# Altium footprint library Empreintes_LIB_atelier1A.PcbLib: 72 footprints (part 2 of 5)
Each footprint in its own frame and in the unit in brackets; x right, y up, seen from the top. Pads: shape width x height; smd on the part's side, far side on the other; paste and mask are expansions set on the pad; w line width, h text height; cw(c..) or ccw(c..) is an arc to the next point about the centre after c.
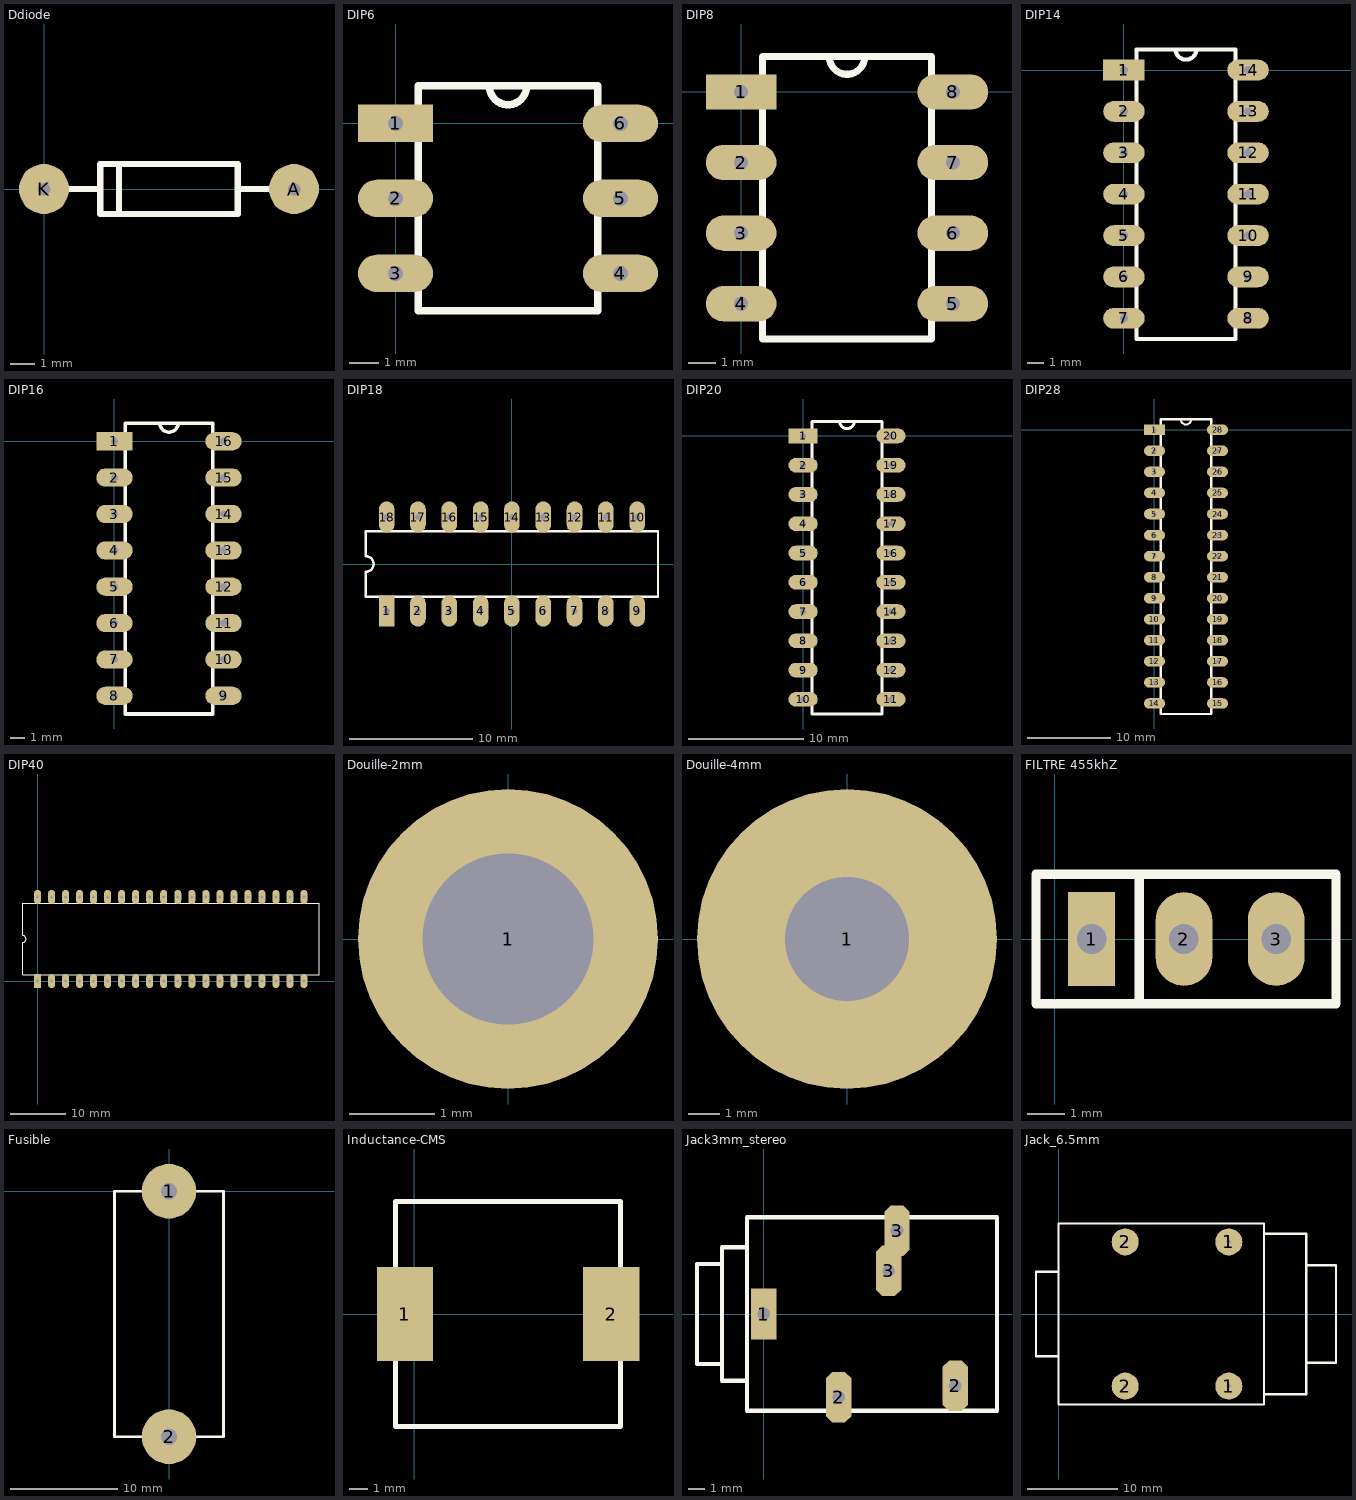
[diagram p1: the footprints below, top view; thin cyan lines are the x and y axes]

## Ddiode [mil]
pads (2):
  round 80 hole 20: A(400,0) K(0,0)
TopOverlay:
  lines w10: 0,0 85,0 ; 120,-40 120,40 ; 315,0 400,0 ; 90,-40 310,-40 310,40 90,40 90,-40

## DIP6 [mil]
pads (6):
  rect 100x50 hole 20: 1(0,0)
  oval 100x50 hole 20: 2(0,-100) 3(0,-200) 4(300,-200) 5(300,-100) 6(300,0)
TopOverlay:
  lines w10: 85,-250 215,-250 ; 85,50 125,50 ccw(c150,50) 175,50 215,50 ; 30,-250 30,50 270,50 270,-250 30,-250

## DIP8 [mil]
pads (8):
  rect 100x50 hole 20: 1(0,0)
  oval 100x50 hole 20: 2(0,-100) 3(0,-200) 4(0,-300) 5(300,-300) 6(300,-200) 7(300,-100) 8(300,0)
TopOverlay:
  lines w10: 85,-350 215,-350 ; 85,50 125,50 ccw(c150,50) 175,50 215,50 ; 30,-350 30,50 270,50 270,-350 30,-350

## DIP14 [mil]
pads (14):
  rect 100x50 hole 20: 1(0,0)
  oval 100x50 hole 20: 2(0,-100) 3(0,-200) 4(0,-300) 5(0,-400) 6(0,-500) 7(0,-600) 8(300,-600) 9(300,-500) 10(300,-400) 11(300,-300) 12(300,-200) 13(300,-100) 14(300,0)
TopOverlay:
  lines w10: 85,-650 215,-650 ; 85,50 125,50 ccw(c150,50) 175,50 215,50 ; 270,40 270,50 ; 270,50 270,-650 30,-650 30,50 270,50

## DIP16 [mil]
pads (16):
  rect 100x50 hole 20: 1(0,0)
  oval 100x50 hole 20: 2(0,-100) 3(0,-200) 4(0,-300) 5(0,-400) 6(0,-500) 7(0,-600) 8(0,-700) 9(300,-700) 10(300,-600) 11(300,-500) 12(300,-400) 13(300,-300) 14(300,-200) 15(300,-100) 16(300,0)
TopOverlay:
  lines w10: 85,-750 215,-750 ; 85,50 125,50 ccw(c150,50) 175,50 215,50 ; 30,-750 30,50 270,50 270,-750 30,-750

## DIP18 [mil] "CerDIP, Window; 18 Leads; Row Spacing 7.62 mm; Pitch 2.54 mm"
height 195.28
pads (18):
  rect 50x100 hole 20: 1(-400,-150)
  oval 50x100 hole 20: 2(-300,-150) 3(-200,-150) 4(-100,-150) 5(0,-150) 6(100,-150) 7(200,-150) 8(300,-150) 9(400,-150) 10(400,150) 11(300,150) 12(200,150) 13(100,150) 14(0,150) 15(-100,150) 16(-200,150) 17(-300,150) 18(-400,150)
TopOverlay:
  lines w7.87: -466.54,-104.33 -466.54,-25 ccw(c-466.54,0) -466.54,25 -466.54,104.33 466.54,104.33 466.54,-104.33 -466.54,-104.33

## DIP20 [mil]
pads (20):
  rect 100x50 hole 20: 1(0,0)
  oval 100x50 hole 20: 2(0,-100) 3(0,-200) 4(0,-300) 5(0,-400) 6(0,-500) 7(0,-600) 8(0,-700) 9(0,-800) 10(0,-900) 11(300,-900) 12(300,-800) 13(300,-700) 14(300,-600) 15(300,-500) 16(300,-400) 17(300,-300) 18(300,-200) 19(300,-100) 20(300,0)
TopOverlay:
  lines w10: 85,-950 215,-950 ; 85,50 125,50 ccw(c150,50) 175,50 215,50 ; 30,-950 30,50 270,50 270,-950 30,-950

## DIP28 [mil]
pads (28):
  rect 100x50 hole 20: 1(0,0)
  oval 100x50 hole 20: 2(0,-100) 3(0,-200) 4(0,-300) 5(0,-400) 6(0,-500) 7(0,-600) 8(0,-700) 9(0,-800) 10(0,-900) 11(0,-1000) 12(0,-1100) 13(0,-1200) 14(0,-1300) 15(300,-1300) 16(300,-1200) 17(300,-1100) 18(300,-1000) 19(300,-900) 20(300,-800) 21(300,-700) 22(300,-600) 23(300,-500) 24(300,-400) 25(300,-300) 26(300,-200) 27(300,-100) 28(300,0)
TopOverlay:
  lines w10: 85,50 125,50 ccw(c150,50) 175,50 215,50 ; 30,-1350 30,50 270,50 270,-1350 30,-1350

## DIP40 [mil] "DIP; 40 Leads; Row Spacing 15.24 mm; Pitch 2.54 mm"
height 225.2
pads (40):
  rect 50x100 hole 20: 1(0,0)
  oval 50x100 hole 20: 2(100,0) 3(200,0) 4(300,0) 5(400,0) 6(500,0) 7(600,0) 8(700,0) 9(800,0) 10(900,0) 11(1000,0) 12(1100,0) 13(1200,0) 14(1300,0) 15(1400,0) 16(1500,0) 17(1600,0) 18(1700,0) 19(1800,0) 20(1900,0) 21(1900,600) 22(1800,600) 23(1700,600) 24(1600,600) 25(1500,600) 26(1400,600) 27(1300,600) 28(1200,600) 29(1100,600) 30(1000,600) 31(900,600) 32(800,600) 33(700,600) 34(600,600) 35(500,600) 36(400,600) 37(300,600) 38(200,600) 39(100,600) 40(0,600)
TopOverlay:
  lines w7.87: -107.09,46.06 -107.09,275 ccw(c-107.09,300) -107.09,325 -107.09,553.94 2007.09,553.94 2007.09,46.06 -107.09,46.06

## Douille-2mm [mm]
pads (1):
  round 3.5 hole 2: 1(0,0)

## Douille-4mm [mil]
pads (1):
  round 380 hole 157.48: 1(0,0)

## FILTRE 455khZ [mm]
pads (3):
  rect 1.27x2.54 hole 0.8: 1(1,0)
  oval 1.54x2.54 hole 0.8: 2(3.5,0) 3(6,0)
TopOverlay:
  lines w0.254: 2.286,-1.75 2.286,1.75 ; -0.508,-1.75 -0.508,1.75 7.62,1.75 7.62,-1.75 -0.508,-1.75

## Fusible [mil]
pads (2):
  round 200 hole 60: 1(0,0) 2(0,-900)
TopOverlay:
  lines w10: -200,-900 200,-900 200,-60 200,0 -200,0 -200,-900

## Inductance-CMS [mil]
pads (2):
  rect 120x200 smd: 1(-20,0) 2(420,0)
TopOverlay:
  lines w10: -40,-240 -40,240 440,240 440,-240 -40,-240

## Jack3mm_stereo [mil]
pads (5):
  rect 60x120 hole 30: 1(0,0)
  oct 60x120 hole 30: 2(177.16,-196.85) 2(452.76,-169.29) 3(295.28,102.36) 3(314.96,196.85)
TopOverlay:
  lines w10: -98.43,-118.11 -157.48,-118.11 -157.48,118.11 -98.43,118.11 ; -39.37,-157.48 -98.43,-157.48 -98.43,157.48 -39.37,157.48 ; -39.37,-228.35 551.18,-228.35 551.18,228.35 -39.37,228.35 -39.37,0 -39.37,-228.35

## Jack_6.5mm [mm]
pads (4):
  round 3 hole 0.508: 1(18.9,-8) 1(18.9,8) 2(7.4,-8) 2(7.4,8)
TopOverlay:
  lines w0.254: 0,-4.7 -2.5,-4.7 -2.5,4.7 0,4.7 ; 22.8,-8.9 27.5,-8.9 27.5,8.9 22.8,8.9 ; 27.5,-5.4 30.8,-5.4 30.8,5.4 27.5,5.4 ; 0,-10.05 0,10.05 22.8,10.05 22.8,-10.05 0,-10.05